# Altium schematic symbol library 1.44LCD.SchLib: 1 symbol
Pins are listed as number, name and electrical type; pins without a type are passive.

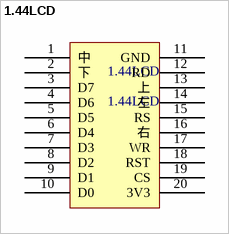
[diagram p0: symbol 1.44LCD]

## 1.44LCD
designator 1.44LCD
footprint 1.44LCD
pins: 1 中, 2 下, 3 D7, 4 D6, 5 D5, 6 D4, 7 D3, 8 D2, 9 D1, 10 D0, 11 GND, 12 RD, 13 上, 14 左, 15 RS, 16 右, 17 WR, 18 RST, 19 CS, 20 3V3